# EAGLE library part TAG-CONNECT-TC2050-IDC (library Oles komponentbibliotek)
Tag-Connect 10-pin TC2050-IDC plug of nails (no legs)
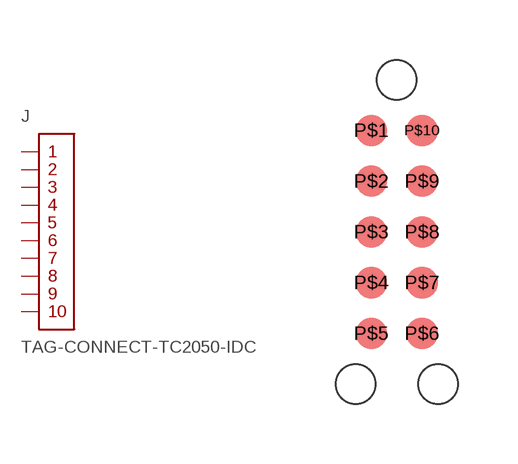
[diagram p65: symbol with the pads of TAGCONNECT-TC2050-IDC-NL; footprint TAGCONNECT-TC2050-IDC-NL]

Designator prefix J

## TAG-CONNECT-TC2050-IDC  [TAGCONNECT-TC2050-IDC-NL]
P$1  P$1
P$2  P$2
P$3  P$3
P$4  P$4
P$5  P$5
P$6  P$6
P$7  P$7
P$8  P$8
P$9  P$9
P$10  P$10

## Footprint TAGCONNECT-TC2050-IDC-NL (pad centres in mm)
Tag-Connect 10-pin TC2050-IDC plug of nails (no legs)
smd 0.787 x 0.787: P$1 0,2.54; P$2 0,1.27; P$3 0,0; P$4 0,-1.27; P$5 0,-2.54; P$6 1.27,-2.54; P$7 1.27,-1.27; P$8 1.27,0; P$9 1.27,1.27; P$10 1.27,2.54
hole 0.991 at 0.635,3.81
hole 0.991 at -0.397,-3.81
hole 0.991 at 1.667,-3.81